# Altium schematic symbol library Q's常用端子.SchLib: 27 symbols
Pins are listed as number, name and electrical type; pins without a type are passive.

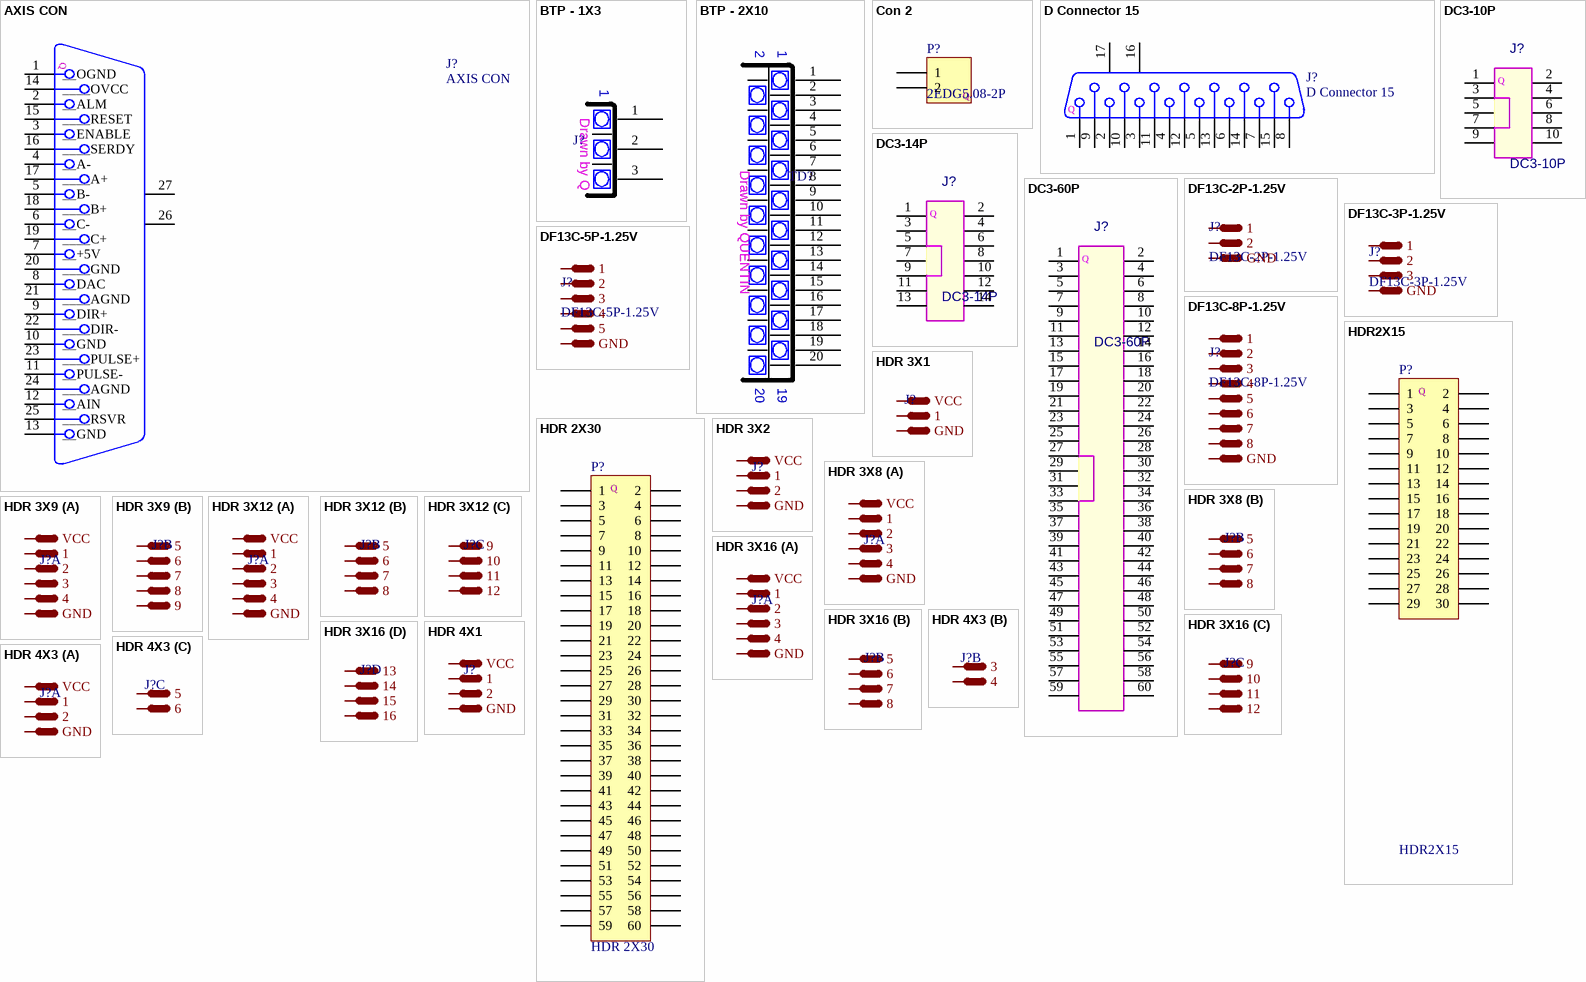
[diagram p0: symbols AXIS CON to HDR 4X3]

## AXIS CON
designator J?
运动轴信号接口; PackageDocument: U; Positions: 25; Gender: Receptacle; Published: 15-Jun-2001; LatestRevisionDate: 17-Jul-2002; LatestRevisionNote: Re-released for DXP Platform.; DatasheetDocument: 19-Mar-1999; PackageReference: 787202; Publisher: Altium Limited; Orientation: Right Angle
footprint DSUB1.385-2H25A (Connector; D Subminiature; 25 Position; Right Angle; Pitch 1.385 mm)
signal-integrity model Connector
pins: 1 __OGND "外部电源地", 2 __ALM "驱动报警", 3 __ENABLE "驱动允许", 4 __A- "编码器输入", 5 __B- "编码器输入", 6 __C- "编码器输入", 7 __+5V "电源输出", 8 __DAC "模拟输出", 9 __DIR+ "步进方向输出", 10 __GND "数字地", 11 __PULSE- "步进脉冲输出", 12 __AIN "模拟量输入", 13 __GND "数字地", 14 ____OVCC "+24V输出", 15 ____RESET "驱动报警复位", 16 ____SERDY "电机到位", 17 ____A+ "编码器输入", 18 ____B+ "编码器输入", 19 ____C+ "编码器输入", 20 ____GND "数字地", 21 ____AGND "DA输出地", 22 ____DIR- "步进方向输出", 23 ____PULSE+ "步进脉冲输出", 24 ____AGND "AD模拟地", 25 ____RSVR "备用", 26 MH1, 27 MH2
text: Q

## BTP - 1X3
designator J?, comment Barrier type Port  - 1X3PIN  (value not drawn)
带盖栅栏式接线端子9.5MM-3P
footprint HB9500-3P
pins: 1, 2, 3
2 alternate drawings of the same symbol
text: Drawn by Q

## BTP - 2X10
designator TD?, comment Barrier type Port 2X10PIN  (value not drawn)
DECA台湾进联7.62间距10位美规贯通式接线端子台TD1-2241
footprint HB760-2X10P
pins: 1, 2, 3, 4, 5, 6, 7, 8, 9, 10, 11, 12, 13, 14, 15, 16, 17, 18, 19, 20
text: Drawn by QUENTIN

## Con 2
designator P?, comment 2EDG5.08-2P
插件，2针ARM系统板供电; LatestRevisionDate: 17-Jul-2002; LatestRevisionNote: Re-released for DXP Platform.; Publisher: Altium Limited
footprint 2P_5.08
signal-integrity model Connector
pins: 1, 2
text: Q

## D Connector 15
designator J?
Receptacle Assembly, 15 Position, Right Angle; PackageDocument: O; Positions: 15; Published: 15-Jun-2001; LatestRevisionDate: 17-Jul-2002; LatestRevisionNote: Re-released for DXP Platform.; DatasheetDocument: 1-Sep-99; PackageReference: 788757; Publisher: Altium Limited; Orientation: Right Angle; Gender: Receptacle
footprint DSUB1.385-2H15 (Connector; D Subminiature; 15 Position; Right Angle; Pitch 1.385 mm)
signal-integrity model Connector
pins: 1, 2, 3, 4, 5, 6, 7, 8, 9, 10, 11, 12, 13, 14, 15, 16 MH1, 17 MH2
text: Q

## DC3-10P
designator J?
10针JTAG下载口
footprint HDR2X5_DC3
pins: 1, 2, 3, 4, 5, 6, 7, 8, 9, 10
text: Q

## DC3-14P
designator J?
14针JTAG下载口
footprint HDR2X7_DC3
pins: 1, 2, 3, 4, 5, 6, 7, 8, 9, 10, 11, 12, 13, 14
text: Q

## DC3-60P
designator J?
牛角座 DC2-2.54MM 64P 全铜
footprint HDR2X30_DC3
pins: 1, 2, 3, 4, 5, 6, 7, 8, 9, 10, 11, 12, 13, 14, 15 14, 16 15, 17 15, 18 16, 19 16, 20 17, 21 17, 22 18, 23 18, 24 19, 25 19, 26 20, 27 20, 28 21, 29 21, 30 22, 31 22, 32 23, 33 23, 34 24, 35 24, 36 25, 37 25, 38 26, 39 26, 40 27, 41 27, 42 28, 43 28, 44 29, 45 29, 46 30, 47 30, 48 31, 49 31, 50 32, 51 32, 52 33, 53 33, 54 34, 55 34, 56 35, 57 35, 58 36, 59 36, 60 37
text: Q

## DF13C-2P-1.25V
designator J?
DF13C-2P-1.25V, 1.25mm
footprint 1.25-2P
pins: 1, 2, GND

## DF13C-3P-1.25V
designator J?
DF13C-3P-1.25V, 1.25mm
footprint 1.25-3P
pins: 1, 2, 3, GND

## DF13C-5P-1.25V
designator J?
DF13C-5P-1.25V, 1.25mm
footprint 1.25-5P
pins: 1, 2, 3, 4, 5, GND

## DF13C-8P-1.25V
designator J?
DF13C-8P-1.25V, 1.25mm
footprint 1.25-8P
pins: 1, 2, 3, 4, 5, 6, 7, 8, GND

## HDR2X15
designator P?
Header, 15Pin, Dual row; LatestRevisionDate: 17-Jul-2002; LatestRevisionNote: Re-released for DXP Platform.; Publisher: Altium Limited
footprint HDR2X15 (Connector; Header; 30x2 Position)
signal-integrity model Connector
pins: 1, 2, 3, 4, 5, 6, 7, 8, 9, 10, 11, 12, 13, 14, 15, 16, 17, 18, 19, 20, 21, 22, 23, 24, 25, 26, 27, 28, 29, 30
text: Q

## HDR 2X30
designator P?
Header, 30-Pin, Dual row; LatestRevisionDate: 17-Jul-2002; LatestRevisionNote: Re-released for DXP Platform.; Publisher: Altium Limited
footprint HDR2X30 (Connector; Header; 30x2 Position)
signal-integrity model Connector
pins: 1, 2, 3, 4, 5, 6, 7, 8, 9, 10, 11, 12, 13, 14, 15, 16, 17, 18, 19, 20, 21, 22, 23, 24, 25, 26, 27, 28, 29, 30, 31, 32, 33, 34, 35, 36, 37, 38, 39, 40, 41, 42, 43, 44, 45, 46, 47, 48, 49, 50, 51, 52, 53, 54, 55, 56, 57, 58, 59, 60
text: Q

## HDR 3X1
designator J?  (value not drawn)
Header 3X1 pins
footprint HDR3X1H
pins: 1, GND, VCC

## HDR 3X2
designator J?  (value not drawn)
Header 3X2 pins
footprint HDR3X2H
pins: 1, 2, GND, VCC

## HDR 3X8
designator J?  (value not drawn)
Header 3X8 pins
footprint HDR3X8H
part A pins: 1, 2, 3, 4, GND, VCC
part B pins: 5, 6, 7, 8

## HDR 3X9
designator J?  (value not drawn)
Header 3X9 pins
footprint HDR3X9H
part A pins: 1, 2, 3, 4, GND, VCC
part B pins: 5, 6, 7, 8, 9

## HDR 3X12
designator J?  (value not drawn)
Header 3X12 pins
footprint HDR3X12H
part A pins: 1, 2, 3, 4, GND, VCC
part B pins: 5, 6, 7, 8
part C pins: 9, 10, 11, 12

## HDR 3X16
designator J?  (value not drawn)
Header 3X16 pins
footprint HDR3X16H
part A pins: 1, 2, 3, 4, GND, VCC
part B pins: 5, 6, 7, 8
part C pins: 9, 10, 11, 12
part D pins: 13, 14, 15, 16

## HDR 4X1
designator J?  (value not drawn)
Header 4X1
footprint HDR4X1
pins: 1, 2, GND, VCC

## HDR 4X3
designator J?  (value not drawn)
Header 4X3
footprint HDR4X3
part A pins: 1, 2, GND, VCC
part B pins: 3, 4
part C pins: 5, 6

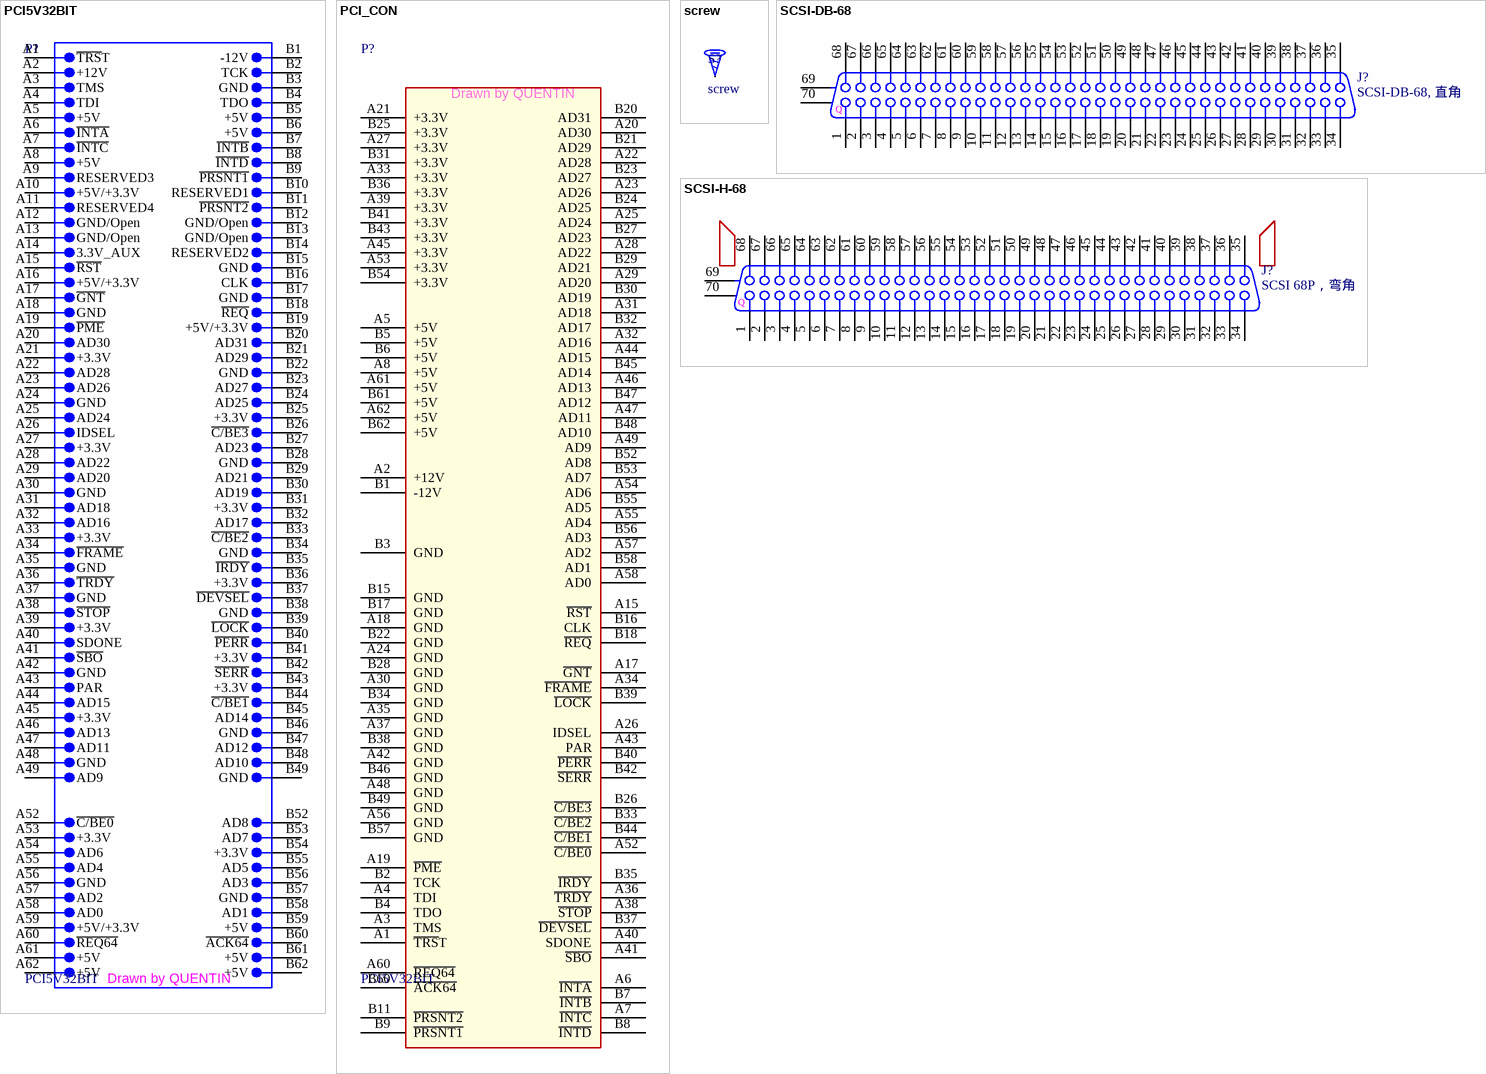
[diagram p1: symbols PCI5V32BIT to SCSI-H-68]

## PCI5V32BIT
designator P?
Card, 120-Position; Text Field6: Pins A50, A51, B50 & B51 are not present.  Alternate Layout Available; Text Field7: Published 14-Feb-2002
footprint PCI5V32BIT
pins: A1     ~{TRS}T, A2     +12V, A3     TMS, A4     TDI, A5     +5V, A6     ~{INTA}, A7     ~{INTC}, A8     +5V, A9     RESERVED3, A10     +5V/+3.3V, A11     RESERVED4, A12     GND/Open, A13     GND/Open, A14     3.3V_AUX, A15     ~{RST}, A16     +5V/+3.3V, A17     ~{GNT}, A18     GND, A19     ~{PME}, A20     AD30, A21     +3.3V, A22     AD28, A23     AD26, A24     GND, A25     AD24, A26     IDSEL, A27     +3.3V, A28     AD22, A29     AD20, A30     GND, A31     AD18, A32     AD16, A33     +3.3V, A34     ~{FRAME}, A35     GND, A36     ~{TRDY}, A37     GND, A38     ~{STOP}, A39     +3.3V, A40     SDONE, A41     ~{SBO}, A42     GND, A43     PAR, A44     AD15, A45     +3.3V, A46     AD13, A47     AD11, A48     GND, A49     AD9, A52     ~{C/BE0}, A53     +3.3V, A54     AD6, A55     AD4, A56     GND, A57     AD2, A58     AD0, A59     +5V/+3.3V, A60     ~{REQ64}, A61     +5V, A62     +5V, B1 -12V    , B2 TCK    , B3 GND    , B4 TDO    , B5 +5V    , B6 +5V    , B7 ~{INTB}    , B8 ~{INTD}    , B9 ~{PRSNT1}    , B10 RESERVED1    , B11 ~{PRSNT2}    , B12 GND/Open    , B13 GND/Open    , B14 RESERVED2    , B15 GND    , B16 CLK    , B17 GND    , B18 ~{REQ}    , B19 +5V/+3.3V    , B20 AD31    , B21 AD29    , B22 GND    , B23 AD27    , B24 AD25    , B25 +3.3V    , B26 ~{C/BE3}    , B27 AD23    , B28 GND    , B29 AD21    , B30 AD19    , B31 +3.3V    , B32 AD17    , B33 ~{C/BE2}    , B34 GND    , B35 ~{IRDY}    , B36 +3.3V    , B37 ~{DEVSEL}    , B38 GND    , B39 ~{LOCK}    , B40 ~{PERR}    , B41 +3.3V    , B42 ~{SERR}    , B43 +3.3V    , B44 ~{C/BE1}    , B45 AD14    , B46 GND    , B47 AD12    , B48 AD10    , B49 GND    , B52 AD8    , B53 AD7    , B54 +3.3V    , B55 AD5    , B56 AD3    , B57 GND    , B58 AD1    , B59 +5V    , B60 ~{ACK64}    , B61 +5V    , B62 +5V    
1 alternate drawing of the same symbol
text: Drawn by QUENTIN

## PCI_CON
designator P?, comment PCI5V32BIT
Card, 120-Position; Text Field6: Pins A50, A51, B50 & B51 are not present.  Alternate Layout Available; Text Field7: Published 14-Feb-2002
footprint PCI5V32BIT
pins: A1 ~{TRS}T, A2 +12V, A3 TMS, A4 TDI, A5 +5V, A6 ~{INTA}, A7 ~{INTC}, A8 +5V, A15 ~{RST}, A17 ~{GNT}, A18 GND, A19 ~{PME}, A20 AD30, A21 +3.3V, A22 AD28, A23 AD26, A24 GND, A25 AD24, A26 IDSEL, A27 +3.3V, A28 AD22, A29 AD20, A30 GND, A31 AD18, A32 AD16, A33 +3.3V, A34 ~{FRAME}, A35 GND, A36 ~{TRDY}, A37 GND, A38 ~{STOP}, A39 +3.3V, A40 SDONE, A41 ~{SBO}, A42 GND, A43 PAR, A44 AD15, A45 +3.3V, A46 AD13, A47 AD11, A48 GND, A49 AD9, A52 ~{C/BE0}, A53 +3.3V, A54 AD6, A55 AD4, A56 GND, A57 AD2, A58 AD0, A60 ~{REQ64}, A61 +5V, A62 +5V, B1 -12V, B2 TCK, B3 GND, B4 TDO, B5 +5V, B6 +5V, B7 ~{INTB}, B8 ~{INTD}, B9 ~{PRSNT1}, B11 ~{PRSNT2}, B15 GND, B16 CLK, B17 GND, B18 ~{REQ}, B20 AD31, B21 AD29, B22 GND, B23 AD27, B24 AD25, B25 +3.3V, B26 ~{C/BE3}, B27 AD23, B28 GND, B29 AD21, B30 AD19, B31 +3.3V, B32 AD17, B33 ~{C/BE2}, B34 GND, B35 ~{IRDY}, B36 +3.3V, B37 ~{DEVSEL}, B38 GND, B39 ~{LOCK}, B40 ~{PERR}, B41 +3.3V, B42 ~{SERR}, B43 +3.3V, B44 ~{C/BE1}, B45 AD14, B46 GND, B47 AD12, B48 AD10, B49 GND, B52 AD8, B53 AD7, B54 +3.3V, B55 AD5, B56 AD3, B57 GND, B58 AD1, B60 ~{ACK64}, B61 +5V, B62 +5V
text: Drawn by QUENTIN

## screw
designator S?
固定螺丝
footprint hole-4 (hole-4mm)
pins: 1

## SCSI-DB-68
designator J?, comment SCSI-DB-68, 直角
68P 母头 直脚 直插 098A68 DB型; PackageDocument: B; Positions: 68; Published: 15-Jun-2001; LatestRevisionDate: 17-Jul-2002; LatestRevisionNote: Re-released for DXP Platform.; DatasheetDocument: 1-Oct-1983; PackageReference: 178240-8; Publisher: Altium Limited; Orientation: Right Angle
footprint CHAMP1.27-2DB68 (Connector; 68 Position; ; Pitch 1.27 mm)
signal-integrity model Connector
pins: 1, 2, 3, 4, 5, 6, 7, 8, 9, 10, 11, 12, 13, 14, 15, 16, 17, 18, 19, 20, 21, 22, 23, 24, 25, 26, 27, 28, 29, 30, 31, 32, 33, 34, 35, 36, 37, 38, 39, 40, 41, 42, 43, 44, 45, 46, 47, 48, 49, 50, 51, 52, 53, 54, 55, 56, 57, 58, 59, 60, 61, 62, 63, 64, 65, 66, 67, 68, 69 MH1, 70 MH2
text: Q

## SCSI-H-68
designator J?, comment SCSI 68P，弯角
68P 母头 弯角 直插 098A68 DB型; PackageDocument: B; Positions: 68; Published: 15-Jun-2001; LatestRevisionDate: 17-Jul-2002; LatestRevisionNote: Re-released for DXP Platform.; DatasheetDocument: 1-Oct-1983; PackageReference: 178240-8; Publisher: Altium Limited; Orientation: Right Angle
footprint CHAMP1.27-2H68 (Connector; 68 Position; Right Angle; Pitch 1.27 mm)
signal-integrity model Connector
pins: 1, 2, 3, 4, 5, 6, 7, 8, 9, 10, 11, 12, 13, 14, 15, 16, 17, 18, 19, 20, 21, 22, 23, 24, 25, 26, 27, 28, 29, 30, 31, 32, 33, 34, 35, 36, 37, 38, 39, 40, 41, 42, 43, 44, 45, 46, 47, 48, 49, 50, 51, 52, 53, 54, 55, 56, 57, 58, 59, 60, 61, 62, 63, 64, 65, 66, 67, 68, 69 MH1, 70 MH2
text: Q